# Altium schematic symbol library SCH - IO EXPANDER - NXP PCA9698DGG TSSOP56.SchLib: 1 symbol
Pins are listed as number, name and electrical type; pins without a type are passive.

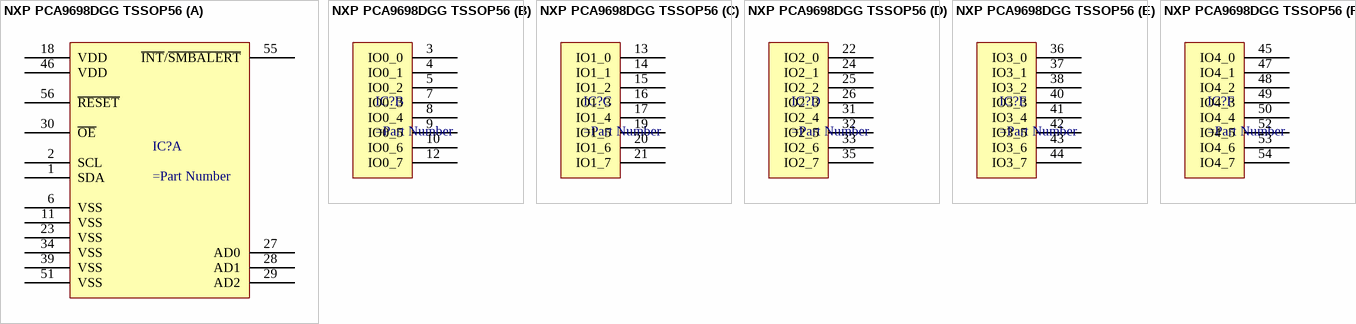
[diagram p0: symbol NXP PCA9698DGG TSSOP56]

## NXP PCA9698DGG TSSOP56
designator IC?
part A pins: 1 SDA, 2 SCL, 6 VSS, 11 VSS, 18 VDD, 23 VSS, 27 AD0, 28 AD1, 29 AD2, 30 ~{OE}, 34 VSS, 39 VSS, 46 VDD, 51 VSS, 55 ~{INT}/~{SMBALERT}, 56 ~{RESET}
part B pins: 3 IO0_0, 4 IO0_1, 5 IO0_2, 7 IO0_3, 8 IO0_4, 9 IO0_5, 10 IO0_6, 12 IO0_7
part C pins: 13 IO1_0, 14 IO1_1, 15 IO1_2, 16 IO1_3, 17 IO1_4, 19 IO1_5, 20 IO1_6, 21 IO1_7
part D pins: 22 IO2_0, 24 IO2_1, 25 IO2_2, 26 IO2_3, 31 IO2_4, 32 IO2_5, 33 IO2_6, 35 IO2_7
part E pins: 36 IO3_0, 37 IO3_1, 38 IO3_2, 40 IO3_3, 41 IO3_4, 42 IO3_5, 43 IO3_6, 44 IO3_7
part F pins: 45 IO4_0, 47 IO4_1, 48 IO4_2, 49 IO4_3, 50 IO4_4, 52 IO4_5, 53 IO4_6, 54 IO4_7